# Altium footprint library INDM710X660X300L160X300N.PcbLib: 1 footprints
Each footprint in its own frame and in the unit in brackets; x right, y up, seen from the top. Pads: shape width x height; smd on the part's side, far side on the other; paste and mask are expansions set on the pad; w line width, h text height; cw(c..) or ccw(c..) is an arc to the next point about the centre after c.
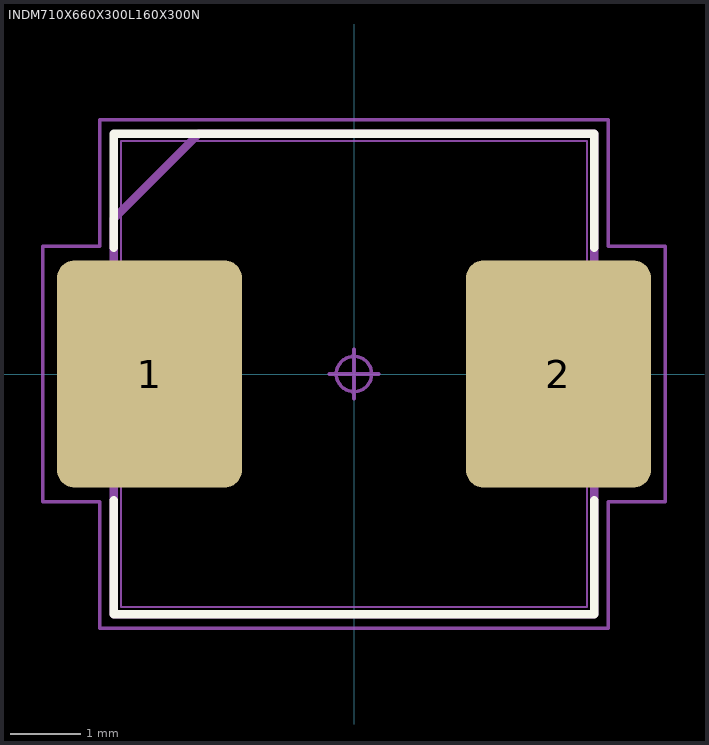
[diagram p0: the footprint, top view; thin cyan lines are the x and y axes]

## INDM710X660X300L160X300N [mm] "Inductor, Molded Body; 6.60 mm L X 6.60 mm W X 3.00 mm H body"
height 3
pads (2):
  rrect19% 2.62x3.22 smd: 1(-2.895,0) 2(2.895,0)
Top Overlay:
  lines w0.12: -3.4,-1.79 -3.4,-3.4 3.4,-3.4 3.4,-1.79 ; -3.4,1.79 -3.4,3.4 3.4,3.4 3.4,1.79
Mechanical 3:
  lines w0.12: -3.4,-3.4 3.4,-3.4 3.4,3.4 -2.2,3.4 -3.4,2.2 -3.4,-3.4
Mechanical 5:
  lines w0.025: -3.55,-1.5 -1.95,-1.5 -1.95,1.5 -3.55,1.5 -3.55,-1.5 ; -3.3,-3.3 -3.3,3.3 3.3,3.3 3.3,-3.3 -3.3,-3.3 ; 1.95,-1.5 1.95,1.5 3.55,1.5 3.55,-1.5 1.95,-1.5
Mechanical 7:
  circle w0.05: c0,0 r0.25
  lines w0.05: -0.35,0 0.35,0 ; 0,-0.35 0,0.35 ; -4.405,-1.81 -4.405,1.81 -3.6,1.81 -3.6,3.6 3.6,3.6 3.6,1.81 4.405,1.81 4.405,-1.81 3.6,-1.81 3.6,-3.6 -3.6,-3.6 -3.6,-1.81 -4.405,-1.81
Mechanical 9:
  text "'.Designator'" at -5.905,-0.479 h1
3D body "INDM710X660X300L160X300.STEP": height 3, standoff 0, extent -3.55,-3.3 3.55,3.3
3D body: height 2, standoff 0.05, extent -4.4,-3.6 4.4,3.6
3D body: height 1.04, standoff 0, extent -4.405,-3.6 4.405,3.6